# Altium schematic symbol library 6903 5728 xx 76.SchLib: 12 symbols
Pins are listed as number, name and electrical type; pins without a type are passive.

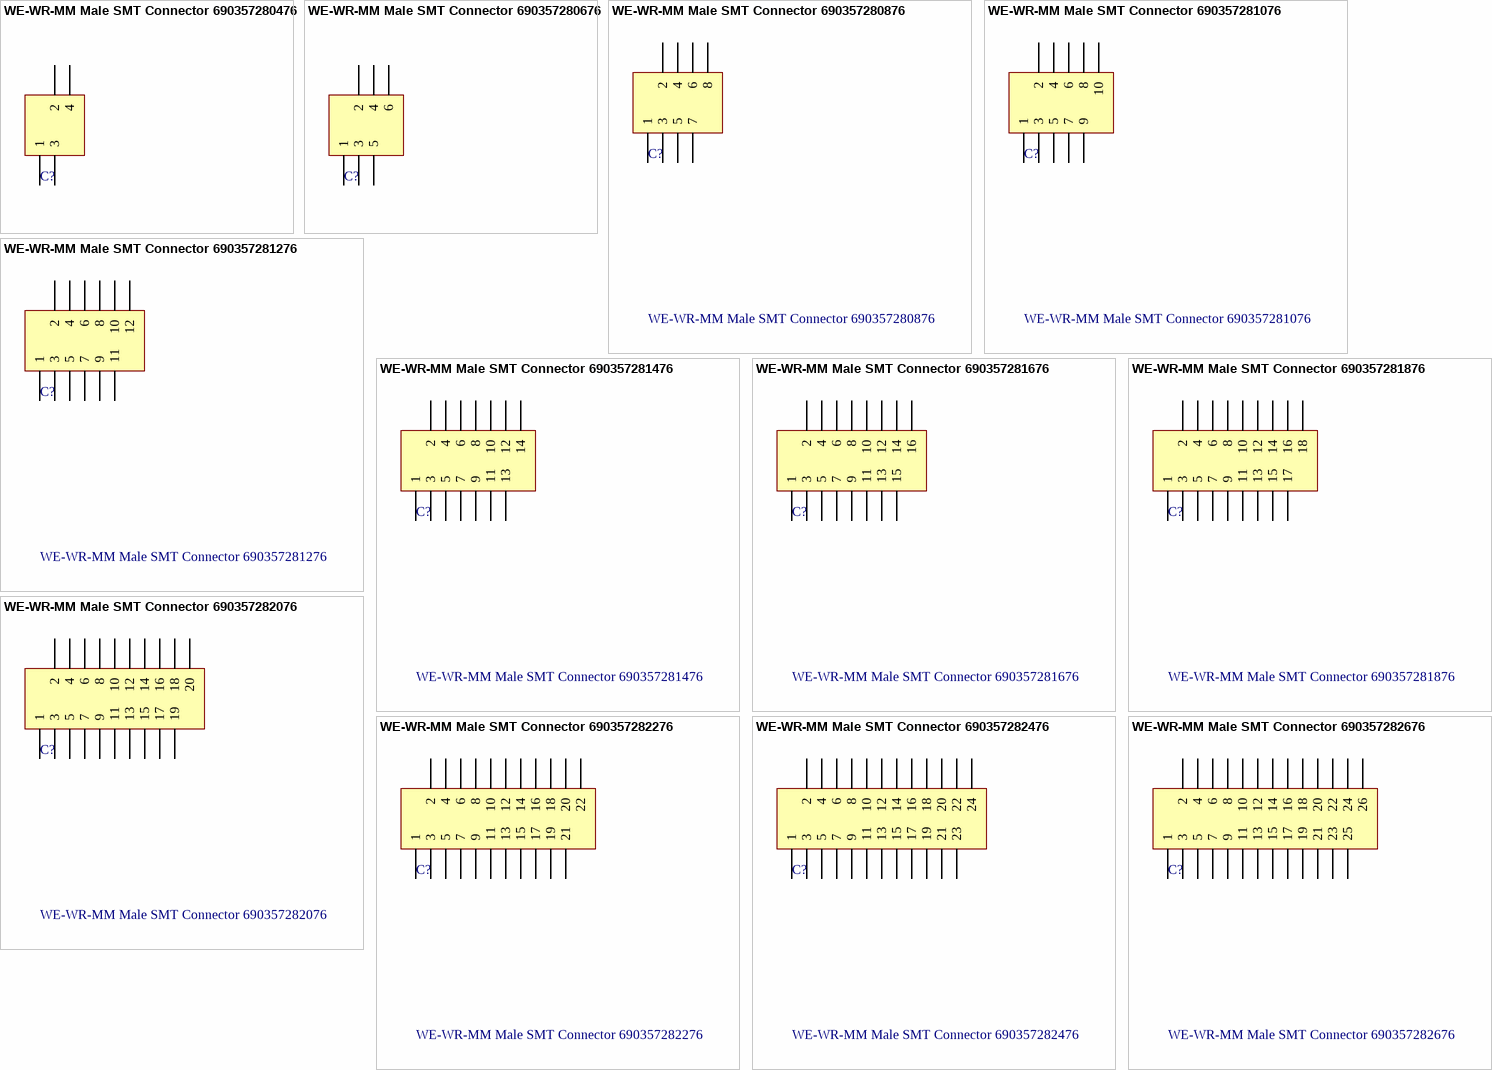
[diagram p0: symbols WE-WR-MM Male SMT Connector 690357280476 to WE-WR-MM Male SMT Connector 690357282676]

## WE-WR-MM Male SMT Connector 690357280476
designator C?
WR-MM Male SMT Connector; Manufacturer: Würth Elektronik eiSos GmbH; ComponentLink1 Description: Manufacturer; ComponentLink2 Description: Datasheet; NoPins: 4; Created Date: 18 April 2013; partNo: 690357280476; ComponentLink1URL: http://www.we-online.com; ComponentLink2URL: http://katalog.we-online.de/em/datasheet/69035728xx76.pdf; Created by: Karrer Zheng
footprint 690357280476 (4 pins, SMT, straight)
pins: 1, 2, 3, 4

## WE-WR-MM Male SMT Connector 690357280676
designator C?
WR-MM Male SMT Connector; Manufacturer: Würth Elektronik eiSos GmbH; ComponentLink1 Description: Manufacturer; ComponentLink2 Description: Datasheet; NoPins: 6; Created Date: 18 April 2013; partNo: 690357280676; ComponentLink1URL: http://www.we-online.com; ComponentLink2URL: http://katalog.we-online.de/em/datasheet/69035728xx76.pdf; Created by: Karrer Zheng
footprint 690357280676 (6 pins, SMT, straight)
pins: 1, 2, 3, 4, 5, 6

## WE-WR-MM Male SMT Connector 690357280876
designator C?
WR-MM Male SMT Connector; Manufacturer: Würth Elektronik eiSos GmbH; ComponentLink1 Description: Manufacturer; ComponentLink2 Description: Datasheet; NoPins: 8; Created Date: 18 April 2013; partNo: 690357280876; ComponentLink1URL: http://www.we-online.com; ComponentLink2URL: http://katalog.we-online.de/em/datasheet/69035728xx76.pdf; Created by: Karrer Zheng
footprint 690357280876 (8 pins, SMT, straight)
pins: 1, 2, 3, 4, 5, 6, 7, 8

## WE-WR-MM Male SMT Connector 690357281076
designator C?
WR-MM Male SMT Connector; Manufacturer: Würth Elektronik eiSos GmbH; ComponentLink1 Description: Manufacturer; ComponentLink2 Description: Datasheet; NoPins: 10; Created Date: 18 April 2013; partNo: 690357281076; ComponentLink1URL: http://www.we-online.com; ComponentLink2URL: http://katalog.we-online.de/em/datasheet/69035728xx76.pdf; Created by: Karrer Zheng
footprint 690357281076 (10 pins, SMT, straight)
pins: 1, 2, 3, 4, 5, 6, 7, 8, 9, 10

## WE-WR-MM Male SMT Connector 690357281276
designator C?
WR-MM Male SMT Connector; Manufacturer: Würth Elektronik eiSos GmbH; ComponentLink1 Description: Manufacturer; ComponentLink2 Description: Datasheet; NoPins: 4; Created Date: 18 April 2013; partNo: 690357281276; ComponentLink1URL: http://www.we-online.com; ComponentLink2URL: http://katalog.we-online.de/em/datasheet/69035728xx76.pdf; Created by: Karrer Zheng
footprint 690357281276 (12 pins, SMT, straight)
pins: 1, 2, 3, 4, 5, 6, 7, 8, 9, 10, 11, 12

## WE-WR-MM Male SMT Connector 690357281476
designator C?
WR-MM Male SMT Connector; Manufacturer: Würth Elektronik eiSos GmbH; ComponentLink1 Description: Manufacturer; ComponentLink2 Description: Datasheet; NoPins: 14; Created Date: 18 April 2013; partNo: 690357281476; ComponentLink1URL: http://www.we-online.com; ComponentLink2URL: http://katalog.we-online.de/em/datasheet/69035728xx76.pdf; Created by: Karrer Zheng
footprint 690357281476 (14 pins, SMT, straight)
pins: 1, 2, 3, 4, 5, 6, 7, 8, 9, 10, 11, 12, 13, 14

## WE-WR-MM Male SMT Connector 690357281676
designator C?
WR-MM Male SMT Connector; Manufacturer: Würth Elektronik eiSos GmbH; ComponentLink1 Description: Manufacturer; ComponentLink2 Description: Datasheet; NoPins: 16; Created Date: 18 April 2013; partNo: 690357281676; ComponentLink1URL: http://www.we-online.com; ComponentLink2URL: http://katalog.we-online.de/em/datasheet/69035728xx76.pdf; Created by: Karrer Zheng
footprint 690357281676 (16 pins, SMT, straight)
pins: 1, 2, 3, 4, 5, 6, 7, 8, 9, 10, 11, 12, 13, 14, 15, 16

## WE-WR-MM Male SMT Connector 690357281876
designator C?
WR-MM Male SMT Connector; Manufacturer: Würth Elektronik eiSos GmbH; ComponentLink1 Description: Manufacturer; ComponentLink2 Description: Datasheet; NoPins: 18; Created Date: 18 April 2013; partNo: 690357281876; ComponentLink1URL: http://www.we-online.com; ComponentLink2URL: http://katalog.we-online.de/em/datasheet/69035728xx76.pdf; Created by: Karrer Zheng
footprint 690357281876 (18 pins, SMT, straight)
pins: 1, 2, 3, 4, 5, 6, 7, 8, 9, 10, 11, 12, 13, 14, 15, 16, 17, 18

## WE-WR-MM Male SMT Connector 690357282076
designator C?
WR-MM Male SMT Connector; Manufacturer: Würth Elektronik eiSos GmbH; ComponentLink1 Description: Manufacturer; ComponentLink2 Description: Datasheet; NoPins: 20; Created Date: 18 April 2013; partNo: 690357282076; ComponentLink1URL: http://www.we-online.com; ComponentLink2URL: http://katalog.we-online.de/em/datasheet/69035728xx76.pdf; Created by: Karrer Zheng
footprint 690357282076 (20 pins, SMT, straight)
pins: 1, 2, 3, 4, 5, 6, 7, 8, 9, 10, 11, 12, 13, 14, 15, 16, 17, 18, 19, 20

## WE-WR-MM Male SMT Connector 690357282276
designator C?
WR-MM Male SMT Connector; Manufacturer: Würth Elektronik eiSos GmbH; ComponentLink1 Description: Manufacturer; ComponentLink2 Description: Datasheet; NoPins: 22; Created Date: 18 April 2013; partNo: 690357282276; ComponentLink1URL: http://www.we-online.com; ComponentLink2URL: http://katalog.we-online.de/em/datasheet/69035728xx76.pdf; Created by: Karrer Zheng
footprint 690357282276 (22 pins, SMT, straight)
pins: 1, 2, 3, 4, 5, 6, 7, 8, 9, 10, 11, 12, 13, 14, 15, 16, 17, 18, 19, 20, 21, 22

## WE-WR-MM Male SMT Connector 690357282476
designator C?
WR-MM Male SMT Connector; Manufacturer: Würth Elektronik eiSos GmbH; ComponentLink1 Description: Manufacturer; ComponentLink2 Description: Datasheet; NoPins: 24; Created Date: 18 April 2013; partNo: 690357282476; ComponentLink1URL: http://www.we-online.com; ComponentLink2URL: http://katalog.we-online.de/em/datasheet/69035728xx76.pdf; Created by: Karrer Zheng
footprint 690357282476 (24 pins, SMT, straight)
pins: 1, 2, 3, 4, 5, 6, 7, 8, 9, 10, 11, 12, 13, 14, 15, 16, 17, 18, 19, 20, 21, 22, 23, 24

## WE-WR-MM Male SMT Connector 690357282676
designator C?
WR-MM Male SMT Connector; Manufacturer: Würth Elektronik eiSos GmbH; ComponentLink1 Description: Manufacturer; ComponentLink2 Description: Datasheet; NoPins: 26; Created Date: 18 April 2013; partNo: 690357282676; ComponentLink1URL: http://www.we-online.com; ComponentLink2URL: http://katalog.we-online.de/em/datasheet/69035728xx76.pdf; Created by: Karrer Zheng
footprint 690357282676 (26 pins, SMT, straight)
pins: 1, 2, 3, 4, 5, 6, 7, 8, 9, 10, 11, 12, 13, 14, 15, 16, 17, 18, 19, 20, 21, 22, 23, 24, 25, 26